# Altium footprint library polycmut.PcbLib: 4 footprints
Each footprint in its own frame and in the unit in brackets; x right, y up, seen from the top. Pads: shape width x height; smd on the part's side, far side on the other; paste and mask are expansions set on the pad; w line width, h text height; cw(c..) or ccw(c..) is an arc to the next point about the centre after c.
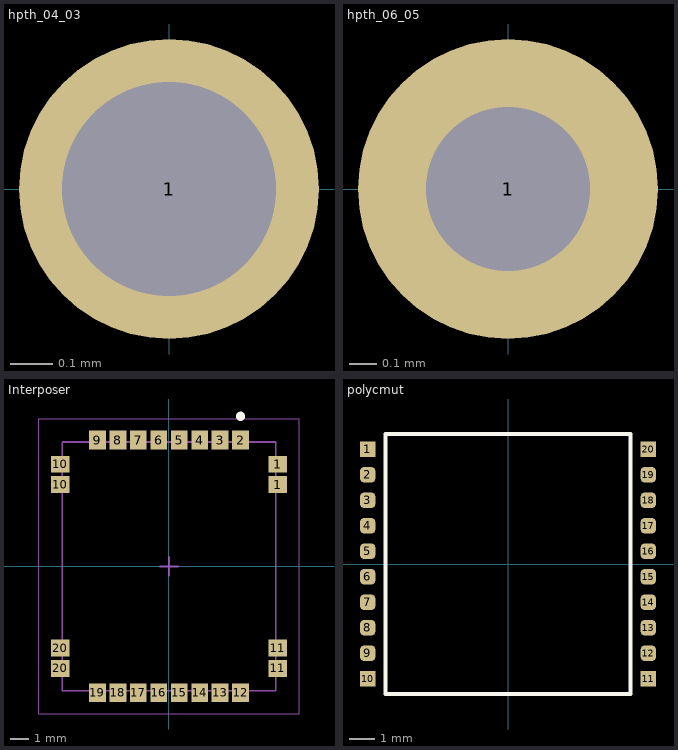
[diagram p0: the footprints below, top view; thin cyan lines are the x and y axes]

## hpth_04_03 [mm]
pads (1):
  round 0.7 hole 0.5 mask+0.102: 1(0,0)
Multi-Layer:
  region: -0.35,0 -0.35,0.35 0.35,0.35 0.35,0

## hpth_06_05 [mm]
pads (1):
  round 1.1 hole 0.6 mask+0.102: 1(0,0)
Multi-Layer:
  region: -0.55,0 -0.55,0.55 0.55,0.55 0.55,0

## Interposer [mm]
pads (24):
  rect 1x0.9 smd: 1(5.85,4.4) 1(5.85,5.5) 10(-5.85,4.4) 10(-5.85,5.5) 11(5.85,-5.5) 11(5.85,-4.4) 20(-5.85,-5.5) 20(-5.85,-4.4)
  rect 0.9x1 smd: 2(3.85,6.8) 3(2.75,6.8) 4(1.65,6.8) 5(0.55,6.8) 6(-0.55,6.8) 7(-1.65,6.8) 8(-2.75,6.8) 9(-3.85,6.8) 12(3.85,-6.8) 13(2.75,-6.8) 14(1.65,-6.8) 15(0.55,-6.8) 16(-0.55,-6.8) 17(-1.65,-6.8) 18(-2.75,-6.8) 19(-3.85,-6.8)
Top Overlay:
  circle w0.25: c3.85,8.075 r0.125
Mechanical 13:
  lines w0.1: -5.75,-6.7 -5.75,6.65 -5.7,6.7 5.75,6.7 5.75,-6.7 -5.75,-6.7
Mechanical 15:
  lines w0.05: -7,-7.95 -7,7.95 7,7.95 7,-7.95 -7,-7.95
  lines w0.1: -0.5,0 0.5,0 ; 0,-0.5 0,0.5
3D body "interposer_pcb.step": height 1.6, standoff -1.31, extent -5.75,-6.7 5.75,6.7

## polycmut [mm]
pads (20):
  rect 0.6x0.6 smd: 1(-5.5,4.5) 10(-5.5,-4.5) 11(5.5,-4.5) 20(5.5,4.5)
  rrect50% 0.6x0.6 smd: 2(-5.5,3.5) 3(-5.5,2.5) 4(-5.5,1.5) 5(-5.5,0.5) 6(-5.5,-0.5) 7(-5.5,-1.5) 8(-5.5,-2.5) 9(-5.5,-3.5) 12(5.5,-3.5) 13(5.5,-2.5) 14(5.5,-1.5) 15(5.5,-0.5) 16(5.5,0.5) 17(5.5,1.5) 18(5.5,2.5) 19(5.5,3.5)
Top Overlay:
  lines w0.15: -4.8,-5.1 4.8,-5.1 4.8,5.1 -4.8,5.1 -4.8,-5.1
3D body: height 1, standoff 0, extent -4.7,-5 4.7,5